# Altium footprint library ICs.PcbLib: 23 footprints (part 1 of 2)
Each footprint in its own frame and in the unit in brackets; x right, y up, seen from the top. Pads: shape width x height; smd on the part's side, far side on the other; paste and mask are expansions set on the pad; w line width, h text height; cw(c..) or ccw(c..) is an arc to the next point about the centre after c.
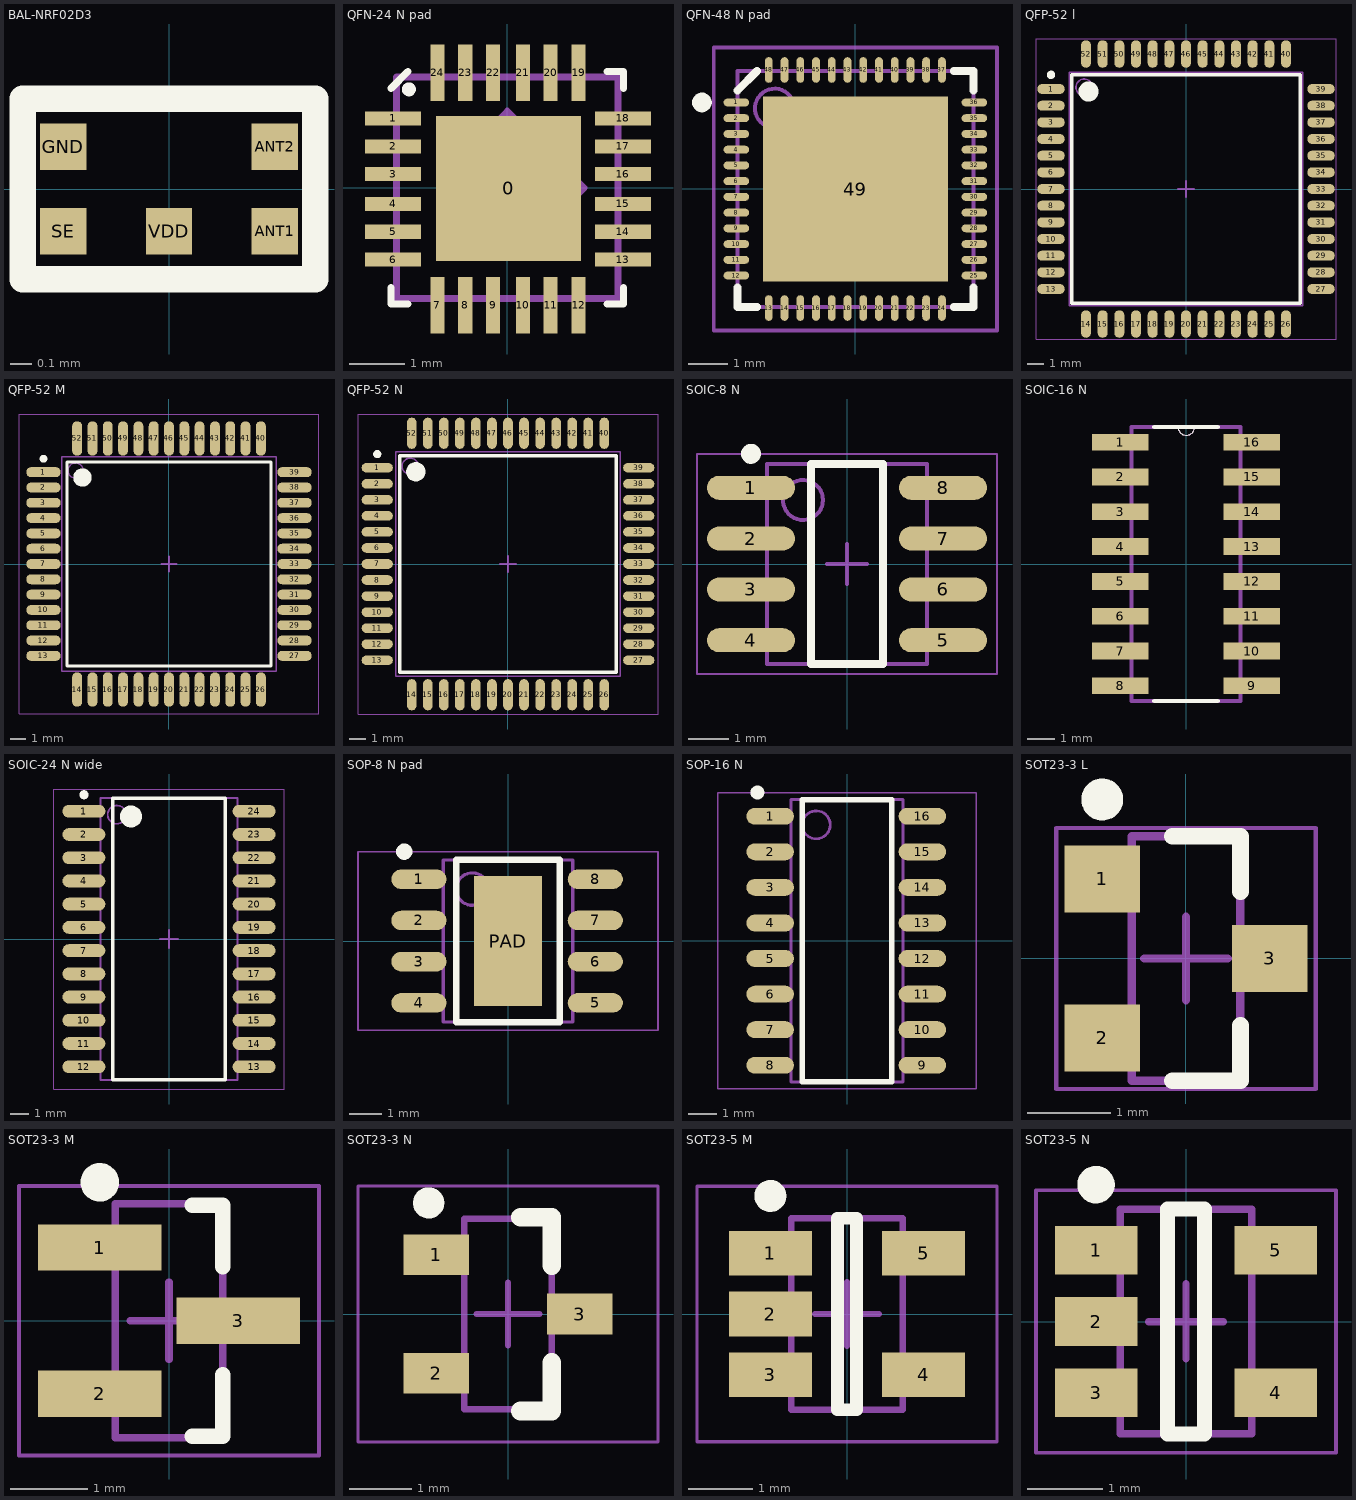
[diagram p0: the footprints below, top view; thin cyan lines are the x and y axes]

## BAL-NRF02D3 [mm]
pads (5):
  rect 0.22x0.22 smd paste-25.4 mask-25.4: ANT1(0.5,-0.2) ANT2(0.5,0.2) GND(-0.5,0.2) SE(-0.5,-0.2) VDD(0,-0.2)
Top Overlay:
  lines w0.127: -0.693,-0.427 -0.693,0.427 0.693,0.427 0.693,-0.427 -0.693,-0.427
Top Paste:
  region: 0.39,-0.31 0.61,-0.31 0.61,-0.09 0.39,-0.09
  region: -0.61,-0.31 -0.39,-0.31 -0.39,-0.09 -0.61,-0.09
  region: 0.39,0.09 0.61,0.09 0.61,0.31 0.39,0.31
  region: -0.11,-0.31 0.11,-0.31 0.11,-0.09 -0.11,-0.09
  region: -0.61,0.09 -0.39,0.09 -0.39,0.31 -0.61,0.31
Top Solder:
  region: 0.29,-0.41 0.71,-0.41 0.71,0.01 0.29,0.01
  region: -0.71,-0.41 -0.29,-0.41 -0.29,0.01 -0.71,0.01
  region: 0.29,-0.01 0.71,-0.01 0.71,0.41 0.29,0.41
  region: -0.21,-0.41 0.21,-0.41 0.21,0.01 -0.21,0.01
  region: -0.71,-0.01 -0.29,-0.01 -0.29,0.41 -0.71,0.41

## QFN-24 N pad [mil]
pads (25):
  rect 103x103 smd mask-1000: 0(0.79,-0.39)
  rect 40x10 smd paste-1000 mask-1000: 1(-81.35,49.48) 2(-81.35,29.51) 3(-81.35,9.74) 4(-81.35,-11.32) 5(-81.35,-31.18) 6(-81.35,-51.05) 13(82.13,-51.05) 14(82.13,-31.18) 15(82.13,-11.32) 16(82.13,9.74) 17(82.13,29.51) 18(82.13,49.48)
  rect 10x40 smd paste-1000 mask-1000: 7(-49.87,-83.53) 8(-30,-83.53) 9(-10.14,-83.53) 10(10.93,-83.53) 11(30.69,-83.53) 12(50.66,-83.53) 19(50.66,81.95) 20(30.69,81.95) 21(10.93,81.95) 22(-10.14,81.95) 23(-30,81.95) 24(-49.87,81.95)
Top Overlay:
  circle w5: c-70.08,70.08 r2.49
  lines w5: -82.68,-70.87 -82.68,-82.68 -70.87,-82.68 ; -82.68,70.87 -70.87,82.68 ; 70.87,-82.68 82.68,-82.68 82.68,-70.87 ; 70.87,82.68 82.68,82.68 82.68,70.87
Top Paste:
  region: -44.87,61.95 -44.87,101.95 -54.87,101.95 -54.87,61.95
  region: -25,61.95 -25,101.95 -35,101.95 -35,61.95
  region: -5.14,61.95 -5.14,101.95 -15.14,101.95 -15.14,61.95
  region: 15.93,61.95 15.93,101.95 5.93,101.95 5.93,61.95
  region: 35.69,61.95 35.69,101.95 25.69,101.95 25.69,61.95
  region: 55.66,61.95 55.66,101.95 45.66,101.95 45.66,61.95
  region: -44.87,-103.53 -44.87,-63.53 -54.87,-63.53 -54.87,-103.53
  region: -25,-103.53 -25,-63.53 -35,-63.53 -35,-103.53
  region: -5.14,-103.53 -5.14,-63.53 -15.14,-63.53 -15.14,-103.53
  region: 15.93,-103.53 15.93,-63.53 5.93,-63.53 5.93,-103.53
  region: 35.69,-103.53 35.69,-63.53 25.69,-63.53 25.69,-103.53
  region: 55.66,-103.53 55.66,-63.53 45.66,-63.53 45.66,-103.53
  region: 102.13,-46.05 62.13,-46.05 62.13,-56.05 102.13,-56.05
  region: 102.13,-26.18 62.13,-26.18 62.13,-36.19 102.13,-36.19
  region: 102.13,-6.32 62.13,-6.32 62.13,-16.32 102.13,-16.32
  region: 102.13,14.74 62.13,14.74 62.13,4.74 102.13,4.74
  region: 102.13,34.51 62.13,34.51 62.13,24.51 102.13,24.51
  region: 102.13,54.48 62.13,54.48 62.13,44.48 102.13,44.48
  region: -61.35,-46.05 -101.35,-46.05 -101.35,-56.05 -61.35,-56.05
  region: -61.35,-26.18 -101.35,-26.18 -101.35,-36.19 -61.35,-36.19
  region: -61.35,-6.32 -101.35,-6.32 -101.35,-16.32 -61.35,-16.32
  region: -61.35,14.74 -101.35,14.74 -101.35,4.74 -61.35,4.74
  region: -61.35,34.51 -101.35,34.51 -101.35,24.51 -61.35,24.51
  region: -61.35,54.48 -101.35,54.48 -101.35,44.48 -61.35,44.48
Top Solder:
  region: -40.93,58.02 -40.93,105.89 -58.81,105.89 -58.81,58.02
  region: -21.07,58.02 -21.07,105.89 -38.94,105.89 -38.94,58.02
  region: -1.2,58.02 -1.2,105.89 -19.07,105.89 -19.07,58.02
  region: 19.86,58.02 19.86,105.89 1.99,105.89 1.99,58.02
  region: 39.63,58.02 39.63,105.89 21.76,105.89 21.76,58.02
  region: 59.59,58.02 59.59,105.89 41.72,105.89 41.72,58.02
  region: -40.93,-107.46 -40.93,-59.59 -58.81,-59.59 -58.81,-107.46
  region: -21.07,-107.46 -21.07,-59.59 -38.94,-59.59 -38.94,-107.46
  region: -1.2,-107.46 -1.2,-59.59 -19.07,-59.59 -19.07,-107.46
  region: 19.86,-107.46 19.86,-59.59 1.99,-59.59 1.99,-107.46
  region: 39.63,-107.46 39.63,-59.59 21.76,-59.59 21.76,-107.46
  region: 59.59,-107.46 59.59,-59.59 41.72,-59.59 41.72,-107.46
  region: 106.07,-42.11 58.2,-42.11 58.2,-59.99 106.07,-59.99
  region: 106.07,-22.25 58.2,-22.25 58.2,-40.12 106.07,-40.12
  region: 106.07,-2.38 58.2,-2.38 58.2,-20.26 106.07,-20.26
  region: 106.07,18.68 58.2,18.68 58.2,0.81 106.07,0.81
  region: 106.07,38.45 58.2,38.45 58.2,20.57 106.07,20.57
  region: 106.07,58.41 58.2,58.41 58.2,40.54 106.07,40.54
  region: -57.41,-42.11 -105.28,-42.11 -105.28,-59.99 -57.41,-59.99
  region: -57.41,-22.25 -105.28,-22.25 -105.28,-40.12 -57.41,-40.12
  region: -57.41,-2.38 -105.28,-2.38 -105.28,-20.26 -57.41,-20.26
  region: -57.41,18.68 -105.28,18.68 -105.28,0.81 -57.41,0.81
  region: -57.41,38.45 -105.28,38.45 -105.28,20.57 -57.41,20.57
  region: -57.41,58.41 -105.28,58.41 -105.28,40.54 -57.41,40.54
  region: -54.65,-55.83 56.22,-55.83 56.22,55.04 -54.65,55.04
Mechanical 1:
  circle w3.94: c0,0 r7.87
  lines w3.94: -11.83,27.46 cw(c0,25.59) 11.83,27.46 ; -7.87,47.24 0,55.12 ; 0,7.87 0,55.12 ; 7.87,0 55.12,0 ; 7.87,27.56 11.81,27.56 15.75,31.5 ; 7.87,47.24 0,55.12 ; 27.46,-11.83 ccw(c25.59,0) 27.46,11.83 ; 27.56,-7.87 27.56,-11.81 31.5,-15.75 ; 47.24,-7.87 55.12,0 ; 47.24,7.87 55.12,0
  lines w5: -78.74,-78.74 78.74,-78.74 78.74,78.74 -78.74,78.74 -78.74,-78.74
3D body "User Library-QFN24-0_5.STEP": height 39.37, standoff 0, extent -77.95,-79.13 79.52,78.34

## QFN-48 N pad [mm]
pads (49):
  oval 0.65x0.2 smd: 1(-3.025,2.2) 2(-3.025,1.8) 3(-3.025,1.4) 4(-3.025,1) 5(-3.025,0.6) 6(-3.025,0.2) 7(-3.025,-0.2) 8(-3.025,-0.6) 9(-3.025,-1) 10(-3.025,-1.4) 11(-3.025,-1.8) 12(-3.025,-2.2) 25(3.025,-2.2) 26(3.025,-1.8) 27(3.025,-1.4) 28(3.025,-1) 29(3.025,-0.6) 30(3.025,-0.2) 31(3.025,0.2) 32(3.025,0.6) 33(3.025,1) 34(3.025,1.4) 35(3.025,1.8) 36(3.025,2.2)
  oval 0.2x0.65 smd: 13(-2.2,-3.025) 14(-1.8,-3.025) 15(-1.4,-3.025) 16(-1,-3.025) 17(-0.6,-3.025) 18(-0.2,-3.025) 19(0.2,-3.025) 20(0.6,-3.025) 21(1,-3.025) 22(1.4,-3.025) 23(1.8,-3.025) 24(2.2,-3.025) 37(2.2,3.025) 38(1.8,3.025) 39(1.4,3.025) 40(1,3.025) 41(0.6,3.025) 42(0.2,3.025) 43(-0.2,3.025) 44(-0.6,3.025) 45(-1,3.025) 46(-1.4,3.025) 47(-1.8,3.025) 48(-2.2,3.025)
  rect 4.7x4.7 smd: 49(0,0)
Top Overlay:
  circle w0.25: c-3.9,2.2 r0.125
  lines w0.2: -3,-2.5 -3,-3 -2.5,-3 ; -3,2.5 -2.5,3 ; 2.5,-3 3,-3 3,-2.5 ; 2.5,3 3,3 3,2.5
Mechanical 13:
  circle w0.1: c-2.05,2.05 r0.5
  lines w0.1: -3,-3 3,-3 3,3 -3,3 -3,-3
Mechanical 15:
  lines w0.1: -0.5,0 0.5,0 ; 0,-0.5 0,0.5 ; -3.6,-3.6 3.6,-3.6 3.6,3.6 -3.6,3.6 -3.6,-3.6
3D body "User Library-QFN48.step": height 0.88, standoff 0.01, extent -3.001,-3.006 3.039,3.034

## QFP-52 l [mm] "QFP, 52-Leads, Body 14x14mm, Pitch 1mm, IPC High Density"
height 3.4
pads (52):
  oval 1.65x0.6 smd: 1(-8.1,6) 2(-8.1,5) 3(-8.1,4) 4(-8.1,3) 5(-8.1,2) 6(-8.1,1) 7(-8.1,0) 8(-8.1,-1) 9(-8.1,-2) 10(-8.1,-3) 11(-8.1,-4) 12(-8.1,-5) 13(-8.1,-6) 27(8.1,-6) 28(8.1,-5) 29(8.1,-4) 30(8.1,-3) 31(8.1,-2) 32(8.1,-1) 33(8.1,0) 34(8.1,1) 35(8.1,2) 36(8.1,3) 37(8.1,4) 38(8.1,5) 39(8.1,6)
  oval 0.6x1.65 smd: 14(-6,-8.1) 15(-5,-8.1) 16(-4,-8.1) 17(-3,-8.1) 18(-2,-8.1) 19(-1,-8.1) 20(0,-8.1) 21(1,-8.1) 22(2,-8.1) 23(3,-8.1) 24(4,-8.1) 25(5,-8.1) 26(6,-8.1) 40(6,8.1) 41(5,8.1) 42(4,8.1) 43(3,8.1) 44(2,8.1) 45(1,8.1) 46(0,8.1) 47(-1,8.1) 48(-2,8.1) 49(-3,8.1) 50(-4,8.1) 51(-5,8.1) 52(-6,8.1)
Top Overlay:
  circle w0.6: c-5.85,5.85 r0.3
  circle w0.25: c-8.1,6.85 r0.125
  lines w0.2: -6.85,-6.85 6.85,-6.85 6.85,6.85 -6.85,6.85 -6.85,-6.85
Mechanical 13:
  circle w0.1: c-6.1,6.1 r0.5
  lines w0.1: -7,-7 7,-7 7,7 -7,7 -7,-7
Mechanical 15:
  lines w0.05: -9,-9 9,-9 9,9 -9,9 -9,-9
  lines w0.1: -0.5,0 0.5,0 ; 0,-0.5 0,0.5
3D body "User Library-IPC QFP-full (1).step": height 3.15, standoff 0, extent -8.61,-8.61 8.61,8.61

## QFP-52 M [mm] "QFP, 52-Leads, Body 14x14mm, Pitch 1mm, IPC Low Density"
height 3.4
pads (52):
  oval 2.25x0.65 smd: 1(-8.2,6) 2(-8.2,5) 3(-8.2,4) 4(-8.2,3) 5(-8.2,2) 6(-8.2,1) 7(-8.2,0) 8(-8.2,-1) 9(-8.2,-2) 10(-8.2,-3) 11(-8.2,-4) 12(-8.2,-5) 13(-8.2,-6) 27(8.2,-6) 28(8.2,-5) 29(8.2,-4) 30(8.2,-3) 31(8.2,-2) 32(8.2,-1) 33(8.2,0) 34(8.2,1) 35(8.2,2) 36(8.2,3) 37(8.2,4) 38(8.2,5) 39(8.2,6)
  oval 0.65x2.25 smd: 14(-6,-8.2) 15(-5,-8.2) 16(-4,-8.2) 17(-3,-8.2) 18(-2,-8.2) 19(-1,-8.2) 20(0,-8.2) 21(1,-8.2) 22(2,-8.2) 23(3,-8.2) 24(4,-8.2) 25(5,-8.2) 26(6,-8.2) 40(6,8.2) 41(5,8.2) 42(4,8.2) 43(3,8.2) 44(2,8.2) 45(1,8.2) 46(0,8.2) 47(-1,8.2) 48(-2,8.2) 49(-3,8.2) 50(-4,8.2) 51(-5,8.2) 52(-6,8.2)
Top Overlay:
  circle w0.25: c-8.2,6.875 r0.125
  circle w0.6: c-5.65,5.65 r0.3
  lines w0.2: -6.65,-6.65 -6.65,6.65 6.65,6.65 6.65,-6.65 -6.65,-6.65
Mechanical 13:
  circle w0.1: c-6.1,6.1 r0.5
  lines w0.1: -7,-7 -7,7 7,7 7,-7 -7,-7
Mechanical 15:
  lines w0.05: -9.8,-9.8 -9.8,9.8 9.8,9.8 9.8,-9.8 -9.8,-9.8
  lines w0.1: -0.5,0 0.5,0 ; 0,-0.5 0,0.5
3D body "User Library-IPC QFP-full (1).step": height 3.15, standoff 0, extent -8.61,-8.61 8.61,8.61

## QFP-52 N [mm] "QFP, 52-Leads, Body 14x14mm, Pitch 1mm, IPC Medium Density"
height 3.4
pads (52):
  oval 1.95x0.6 smd: 1(-8.15,6) 2(-8.15,5) 3(-8.15,4) 4(-8.15,3) 5(-8.15,2) 6(-8.15,1) 7(-8.15,0) 8(-8.15,-1) 9(-8.15,-2) 10(-8.15,-3) 11(-8.15,-4) 12(-8.15,-5) 13(-8.15,-6) 27(8.15,-6) 28(8.15,-5) 29(8.15,-4) 30(8.15,-3) 31(8.15,-2) 32(8.15,-1) 33(8.15,0) 34(8.15,1) 35(8.15,2) 36(8.15,3) 37(8.15,4) 38(8.15,5) 39(8.15,6)
  oval 0.6x1.95 smd: 14(-6,-8.15) 15(-5,-8.15) 16(-4,-8.15) 17(-3,-8.15) 18(-2,-8.15) 19(-1,-8.15) 20(0,-8.15) 21(1,-8.15) 22(2,-8.15) 23(3,-8.15) 24(4,-8.15) 25(5,-8.15) 26(6,-8.15) 40(6,8.15) 41(5,8.15) 42(4,8.15) 43(3,8.15) 44(2,8.15) 45(1,8.15) 46(0,8.15) 47(-1,8.15) 48(-2,8.15) 49(-3,8.15) 50(-4,8.15) 51(-5,8.15) 52(-6,8.15)
Top Overlay:
  circle w0.25: c-8.15,6.85 r0.125
  circle w0.6: c-5.75,5.75 r0.3
  lines w0.2: -6.75,-6.75 -6.75,6.75 6.75,6.75 6.75,-6.75 -6.75,-6.75
Mechanical 13:
  circle w0.1: c-6.1,6.1 r0.5
  lines w0.1: -7,-7 -7,7 7,7 7,-7 -7,-7
Mechanical 15:
  lines w0.05: -9.35,-9.35 -9.35,9.35 9.35,9.35 9.35,-9.35 -9.35,-9.35
  lines w0.1: -0.5,0 0.5,0 ; 0,-0.5 0,0.5
3D body "User Library-IPC QFP-full (1).step": height 3.15, standoff 0, extent -8.61,-8.61 8.61,8.61

## SOIC-8 N [mm] "SOIC, 8-Leads, Body 4.9x3.9mm, Pitch 1.27mm, IPC Medium Density"
height 1.75
pads (8):
  oval 2.2x0.6 smd: 1(-2.4,1.905) 2(-2.4,0.635) 3(-2.4,-0.635) 4(-2.4,-1.905) 5(2.4,-1.905) 6(2.4,-0.635) 7(2.4,0.635) 8(2.4,1.905)
Top Overlay:
  circle w0.25: c-2.4,2.755 r0.125
  lines w0.2: -0.9,-2.5 0.9,-2.5 0.9,2.5 -0.9,2.5 -0.9,-2.5
Mechanical 13:
  circle w0.1: c-1.1,1.6 r0.5
  lines w0.1: -2,-2.5 2,-2.5 2,2.5 -2,2.5 -2,-2.5
Mechanical 15:
  lines w0.05: -3.75,-2.75 3.75,-2.75 3.75,2.75 -3.75,2.75 -3.75,-2.75
  lines w0.1: -0.5,0 0.5,0 ; 0,-0.5 0,0.5
3D body "User Library-so8-3.step": height 1.7, standoff 0, extent -3,-2.45 3,2.45

## SOIC-16 N [mil]
pads (16):
  rect 81x24 smd paste-1000 mask-1000: 1(-95,175) 2(-95,125) 3(-95,75) 4(-95,25) 5(-95,-25) 6(-95,-75) 7(-95,-125) 8(-95,-175) 9(94,-175) 10(94,-125) 11(94,-75) 12(94,-25) 13(94,25) 14(94,75) 15(94,125) 16(94,175)
Top Overlay:
  lines w0: -12,197 ccw(c0,197) 12,197
  lines w6: -46,-197 45,-197 ; -46,197 -12,197 12,197 45,197
Top Paste:
  region: 53.5,163 134.5,163 134.5,187 53.5,187
  region: 53.5,113 134.5,113 134.5,137 53.5,137
  region: 53.5,63 134.5,63 134.5,87 53.5,87
  region: 53.5,13 134.5,13 134.5,37 53.5,37
  region: 53.5,-37 134.5,-37 134.5,-13 53.5,-13
  region: 53.5,-87 134.5,-87 134.5,-63 53.5,-63
  region: 53.5,-137 134.5,-137 134.5,-113 53.5,-113
  region: 53.5,-187 134.5,-187 134.5,-163 53.5,-163
  region: -135.5,-187 -54.5,-187 -54.5,-163 -135.5,-163
  region: -135.5,-137 -54.5,-137 -54.5,-113 -135.5,-113
  region: -135.5,-87 -54.5,-87 -54.5,-63 -135.5,-63
  region: -135.5,-37 -54.5,-37 -54.5,-13 -135.5,-13
  region: -135.5,13 -54.5,13 -54.5,37 -135.5,37
  region: -135.5,63 -54.5,63 -54.5,87 -135.5,87
  region: -135.5,113 -54.5,113 -54.5,137 -135.5,137
  region: -135.5,163 -54.5,163 -54.5,187 -135.5,187
Top Solder:
  region: 49.56,159.06 138.44,159.06 138.44,190.94 49.56,190.94
  region: 49.56,109.06 138.44,109.06 138.44,140.94 49.56,140.94
  region: 49.56,59.06 138.44,59.06 138.44,90.94 49.56,90.94
  region: 49.56,9.06 138.44,9.06 138.44,40.94 49.56,40.94
  region: 49.56,-40.94 138.44,-40.94 138.44,-9.06 49.56,-9.06
  region: 49.56,-90.94 138.44,-90.94 138.44,-59.06 49.56,-59.06
  region: 49.56,-140.94 138.44,-140.94 138.44,-109.06 49.56,-109.06
  region: 49.56,-190.94 138.44,-190.94 138.44,-159.06 49.56,-159.06
  region: -139.44,-190.94 -50.56,-190.94 -50.56,-159.06 -139.44,-159.06
  region: -139.44,-140.94 -50.56,-140.94 -50.56,-109.06 -139.44,-109.06
  region: -139.44,-90.94 -50.56,-90.94 -50.56,-59.06 -139.44,-59.06
  region: -139.44,-40.94 -50.56,-40.94 -50.56,-9.06 -139.44,-9.06
  region: -139.44,9.06 -50.56,9.06 -50.56,40.94 -139.44,40.94
  region: -139.44,59.06 -50.56,59.06 -50.56,90.94 -139.44,90.94
  region: -139.44,109.06 -50.56,109.06 -50.56,140.94 -139.44,140.94
  region: -139.44,159.06 -50.56,159.06 -50.56,190.94 -139.44,190.94
Mechanical 1:
  lines w0: -12,197 ccw(c0,197) 12,197
  lines w6: -95,-175 -79,-175 ; -95,-125 -79,-125 ; -95,-75 -79,-75 ; -95,-25 -79,-25 ; -95,25 -79,25 ; -95,75 -79,75 ; -95,125 -79,125 ; -95,175 -79,175 ; 78,-175 94,-175 ; 78,-125 94,-125 ; 78,-75 94,-75 ; 78,-25 94,-25 ; 78,25 94,25 ; 78,75 94,75 ; 78,125 94,125 ; 78,175 94,175 ; -79,-197 -79,197 -12,197 12,197 78,197 78,-197 -79,-197
3D body "User Library-SOIC-16.step": height 55.14, standoff -0.02, extent -118.11,-194.88 118.12,194.88

## SOIC-24 N wide [mm] "SOIC, 24-Leads, Body 15.4x7.5mm, Pitch 1.27mm, IPC Low Density"
height 2.65
pads (24):
  oval 2.35x0.7 smd: 1(-4.65,6.985) 2(-4.65,5.715) 3(-4.65,4.445) 4(-4.65,3.175) 5(-4.65,1.905) 6(-4.65,0.635) 7(-4.65,-0.635) 8(-4.65,-1.905) 9(-4.65,-3.175) 10(-4.65,-4.445) 11(-4.65,-5.715) 12(-4.65,-6.985) 13(4.65,-6.985) 14(4.65,-5.715) 15(4.65,-4.445) 16(4.65,-3.175) 17(4.65,-1.905) 18(4.65,-0.635) 19(4.65,0.635) 20(4.65,1.905) 21(4.65,3.175) 22(4.65,4.445) 23(4.65,5.715) 24(4.65,6.985)
Top Overlay:
  circle w0.25: c-4.65,7.885 r0.125
  circle w0.6: c-2.075,6.7 r0.3
  lines w0.2: -3.075,-7.7 -3.075,7.7 3.075,7.7 3.075,-7.7 -3.075,-7.7
Mechanical 13:
  circle w0.1: c-2.85,6.8 r0.5
  lines w0.1: -3.75,-7.7 -3.75,7.7 3.75,7.7 3.75,-7.7 -3.75,-7.7
Mechanical 15:
  lines w0.05: -6.3,-8.2 -6.3,8.2 6.3,8.2 6.3,-8.2 -6.3,-8.2
  lines w0.1: -0.5,0 0.5,0 ; 0,-0.5 0,0.5
3D body "SOIC_24.STEP": height 2.6, standoff 0, extent -5.2,-7.78 5.2,7.62

## SOP-8 N pad [mm] "TSOP, 8-Leads, Body 4,90x3,95mm, Pitch 1,27mm, Thermal Pad 4,00x2,10mm, IPC Medium Density"
height 1.5
pads (9):
  oval 1.7x0.6 smd: 1(-2.746,1.905) 2(-2.746,0.635) 3(-2.746,-0.635) 4(-2.746,-1.905) 5(2.692,-1.905) 6(2.692,-0.635) 7(2.692,0.635) 8(2.692,1.905)
  rect 2.1x4 smd: PAD(0,0)
Top Overlay:
  circle w0.25: c-3.2,2.755 r0.125
  lines w0.2: -1.6,-2.5 1.6,-2.5 1.6,2.5 -1.6,2.5 -1.6,-2.5
Mechanical 13:
  circle w0.1: c-1.1,1.6 r0.5
  lines w0.1: -2,-2.5 2,-2.5 2,2.5 -2,2.5 -2,-2.5
Mechanical 15:
  lines w0.05: -4.625,-2.75 4.625,-2.75 4.625,2.75 -4.625,2.75 -4.625,-2.75
3D body "User Library-sop-8.step": height 1.6, standoff 0, extent -3.021,-2.51 3.021,2.51

## SOP-16 N [mm]
pads (16):
  oval 1.7x0.6 smd: 1(-2.746,4.445) 2(-2.746,3.175) 3(-2.746,1.905) 4(-2.746,0.635) 5(-2.746,-0.635) 6(-2.746,-1.905) 7(-2.746,-3.175) 8(-2.746,-4.445) 9(2.692,-4.445) 10(2.692,-3.175) 11(2.692,-1.905) 12(2.692,-0.635) 13(2.692,0.635) 14(2.692,1.905) 15(2.692,3.175) 16(2.692,4.445)
Top Overlay:
  circle w0.25: c-3.2,5.295 r0.125
  lines w0.2: -1.6,-5.04 -1.6,5.04 1.6,5.04 1.6,-5.04 -1.6,-5.04
Mechanical 13:
  circle w0.1: c-1.1,4.14 r0.5
  lines w0.1: -2,-5.04 -2,5.04 2,5.04 2,-5.04 -2,-5.04
Mechanical 15:
  lines w0.05: -4.625,-5.29 -4.625,5.29 4.625,5.29 4.625,-5.29 -4.625,-5.29
3D body "User Library-SOIC127P600X175-16.step": height 1.65, standoff 0, extent -3.04,-5 3.04,5

## SOT23-3 L [mm] "SOT23, 3-Leads, Body 2.92x1.3mm, Pitch 0.95mm"
height 1.11
pads (3):
  rect 0.9x0.8 smd: 1(-1,0.95) 2(-1,-0.95) 3(1,0)
Top Overlay:
  circle w0.25: c-1,1.9 r0.125
  lines w0.2: -0.165,-1.46 0.65,-1.46 0.65,-0.8 ; -0.165,1.46 0.65,1.46 0.65,0.8
Mechanical 13:
  lines w0.1: -0.65,-1.46 -0.65,1.46 0.65,1.46 0.65,-1.46 -0.65,-1.46
Mechanical 15:
  lines w0.05: -1.55,-1.56 -1.55,1.56 1.55,1.56 1.55,-1.56 -1.55,-1.56
  lines w0.1: -0.5,0 0.5,0 ; 0,-0.5 0,0.5
3D body "CircuitWorks-SOT-23.step": height 1.11, standoff 0.01, extent -1.25,-1.5 1.25,1.5

## SOT23-3 M [mm] "SOT23, 3-Leads, Body 2.92x2.37mm, Pitch 0.95mm, IPC Medium Density"
height 1.12
pads (3):
  rect 1.6x0.6 smd: 1(-0.9,0.95) 2(-0.9,-0.95) 3(0.9,0)
Top Overlay:
  circle w0.25: c-0.9,1.8 r0.125
  lines w0.2: 0.3,-1.5 0.7,-1.5 0.7,-0.7 ; 0.3,1.5 0.7,1.5 0.7,0.7
Mechanical 13:
  lines w0.1: -0.7,-1.52 -0.7,1.52 0.7,1.52 0.7,-1.52 -0.7,-1.52
Mechanical 15:
  lines w0.05: -1.95,-1.75 -1.95,1.75 1.95,1.75 1.95,-1.75 -1.95,-1.75
  lines w0.1: -0.5,0 0.5,0 ; 0,-0.5 0,0.5
3D body "CircuitWorks-SOT-23.step": height 1.11, standoff 0.01, extent -1.25,-1.5 1.25,1.5

## SOT23-3 N [mm] "MCP1700T-3302E/TT"
height 1.12
pads (3):
  rect 1.05x0.65 smd: 1(-1.15,0.95) 2(-1.15,-0.95) 3(1.15,0)
Top Overlay:
  circle w0.25: c-1.27,1.778 r0.125
  lines w0.3: 0.2,-1.55 0.7,-1.55 0.7,-0.775 ; 0.2,1.55 0.7,1.55 0.7,0.775
Mechanical 13:
  lines w0.1: -0.7,-1.525 -0.7,1.525 0.7,1.525 0.7,-1.525 -0.7,-1.525
Mechanical 15:
  lines w0.05: -2.4,-2.05 -2.4,2.05 2.4,2.05 2.4,-2.05 -2.4,-2.05
  lines w0.1: -0.5,0 0.5,0 ; 0,-0.5 0,0.5
3D body "CircuitWorks-SOT-23.step": height 1.11, standoff 0.01, extent -1.123,-1.5 1.377,1.5

## SOT23-5 M [mm] "SOT23, 5-Leads, Body 2.9x1.6mm, Pitch 0.95mm, Lead Span 2.8mm, IPC Low Density"
height 1.45
pads (5):
  rect 1.3x0.7 smd: 1(-1.2,0.95) 2(-1.2,0) 3(-1.2,-0.95) 4(1.2,-0.95) 5(1.2,0.95)
Top Overlay:
  circle w0.25: c-1.2,1.85 r0.125
  lines w0.2: -0.15,-1.5 -0.15,1.5 0.15,1.5 0.15,-1.5 -0.15,-1.5
Mechanical 13:
  lines w0.1: -0.875,-1.5 0.875,-1.5 0.875,1.5 -0.875,1.5 -0.875,-1.5
Mechanical 15:
  lines w0.05: -2.35,-2 2.35,-2 2.35,2 -2.35,2 -2.35,-2
  lines w0.1: -0.5,0 0.5,0 ; 0,-0.5 0,0.5
3D body "User Library-SOT23-5-1.step": height 1.3, standoff 0, extent -1.5,-1.5 1.5,1.5

## SOT23-5 N [mm] "SOT23, 5-Leads, Body 2.9x1.6mm, Pitch 0.95mm, Lead Span 2.8mm, IPC Medium Density"
height 1.45
pads (5):
  rect 1.1x0.65 smd: 1(-1.2,0.95) 2(-1.2,0) 3(-1.2,-0.95) 4(1.2,-0.95) 5(1.2,0.95)
Top Overlay:
  circle w0.25: c-1.2,1.825 r0.125
  lines w0.2: -0.25,-1.5 -0.25,1.5 0.25,1.5 0.25,-1.5 -0.25,-1.5
Mechanical 13:
  lines w0.1: -0.875,-1.5 0.875,-1.5 0.875,1.5 -0.875,1.5 -0.875,-1.5
Mechanical 15:
  lines w0.05: -2,-1.75 2,-1.75 2,1.75 -2,1.75 -2,-1.75
  lines w0.1: -0.5,0 0.5,0 ; 0,-0.5 0,0.5
3D body "User Library-SOT23-5-1.step": height 1.3, standoff 0, extent -1.5,-1.5 1.5,1.5